# Altium schematic symbol library C1210W104KCRACTU.SchLib: 1 symbol
Pins are listed as number, name and electrical type; pins without a type are passive.

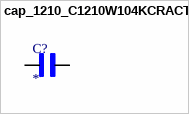
[diagram p0: symbol cap_1210_C1210W104KCRACTU]

## cap_1210_C1210W104KCRACTU
designator C?
Capacitor  1210; MF: KEMET; MP: C1210W104KCRACTU; SnapEDA_Link: https://www.snapeda.com/parts/C1210W104KCRACTU/Kemet/view-part/?ref=snap; Package: 1210 Yageo / Phycomp; Value: *; Check_prices: https://www.snapeda.com/parts/C1210W104KCRACTU/Kemet/view-part/?ref=eda
footprint CAPC3225X140N
pins: 1, 2